# EAGLE library part 0.1IN_14X2 (library beagleboardc4)
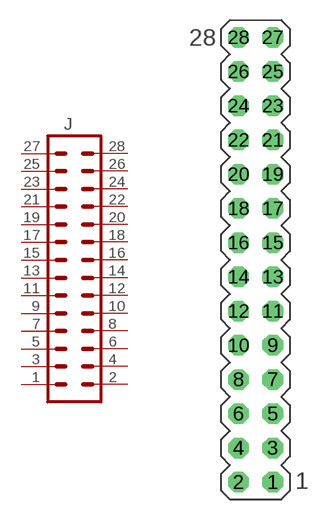
[diagram p1: symbol with the pads of 0.1IN_14X2; footprint 0.1IN_14X2]

Designator prefix J

## 0.1IN_14X2  [0.1IN_14X2]
1  1  pas
2  2  pas
3  3  pas
4  4  pas
5  5  pas
6  6  pas
7  7  pas
8  8  pas
9  9  pas
10  10  pas
11  11  pas
12  12  pas
13  13  pas
14  14  pas
15  15  pas
16  16  pas
17  17  pas
18  18  pas
19  19  pas
20  20  pas
21  21  pas
22  22  pas
23  23  pas
24  24  pas
25  25  pas
26  26  pas
27  27  pas
28  28  pas

## Footprint 0.1IN_14X2 (pad centres in mm)
drill 1.016 octagon: 1 1.27,-24.13; 2 -1.27,-24.13; 3 1.27,-21.59; 4 -1.27,-21.59; 5 1.27,-19.05; 6 -1.27,-19.05; 7 1.27,-16.51; 8 -1.27,-16.51; 9 1.27,-13.97; 10 -1.27,-13.97; 11 1.27,-11.43; 12 -1.27,-11.43; 13 1.27,-8.89; 14 -1.27,-8.89; 15 1.27,-6.35; 16 -1.27,-6.35; 17 1.27,-3.81; 18 -1.27,-3.81; 19 1.27,-1.27; 20 -1.27,-1.27; 21 1.27,1.27; 22 -1.27,1.27; 23 1.27,3.81; 24 -1.27,3.81; 25 1.27,6.35; 26 -1.27,6.35; 27 1.27,8.89; 28 -1.27,8.89